# Altium footprint library KYCON-KUSBVX-BS1N-B.PcbLib: 1 footprints
Each footprint in its own frame and in the unit in brackets; x right, y up, seen from the top. Pads: shape width x height; smd on the part's side, far side on the other; paste and mask are expansions set on the pad; w line width, h text height; cw(c..) or ccw(c..) is an arc to the next point about the centre after c.
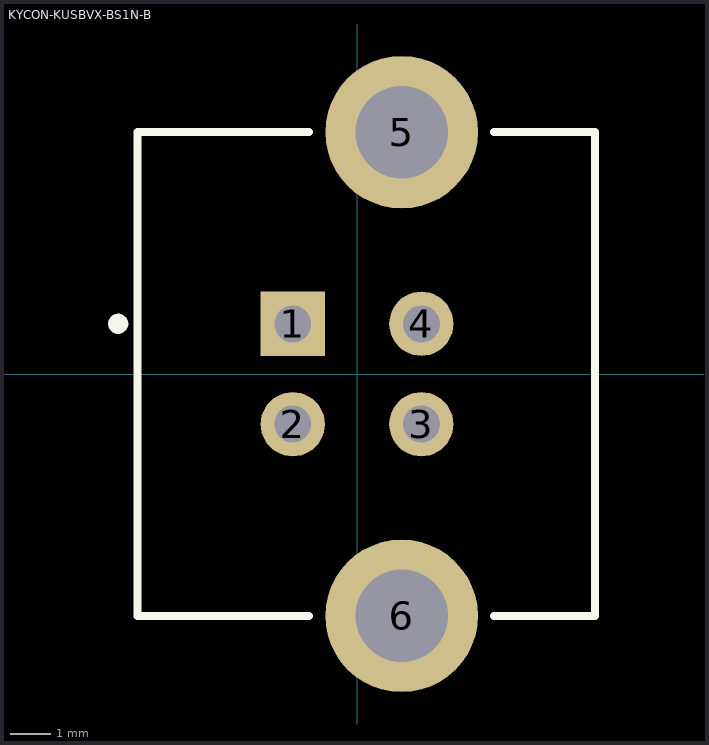
[diagram p0: the footprint, top view; thin cyan lines are the x and y axes]

## KYCON-KUSBVX-BS1N-B [mm]
pads (6):
  rect 1.6x1.6 hole 0.92: 1(-1.6,1.25)
  round 1.6 hole 0.92: 2(-1.6,-1.25) 3(1.6,-1.25) 4(1.6,1.25)
  round 3.8 hole 2.3: 5(1.11,6.02) 6(1.11,-6.02)
Top Overlay:
  circle w0.25: c-5.944,1.25 r0.125
  lines w0.2: -1.19,-6.02 -5.461,-6.02 -5.461,6.02 -1.19,6.02 ; 3.41,-6.02 5.918,-6.02 5.918,6.02 3.41,6.02
3D body: height 16, standoff -3.8, extent -5.396,-7.137 5.904,7.155